# EAGLE library part AVRISP (library ISS-Notify)
ISP header for AVR
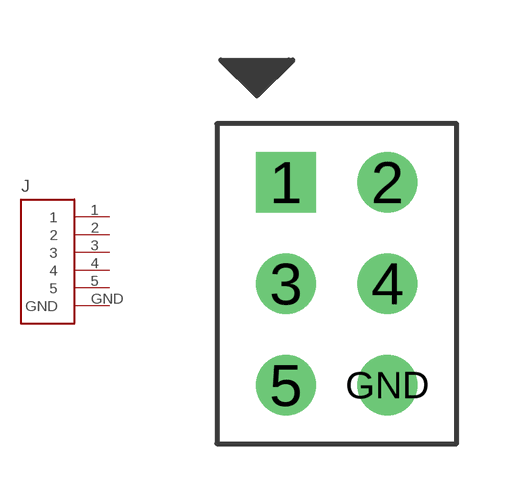
[diagram p1: symbol with the pads of AVRISP; footprint AVRISP]

Designator prefix J

## AVRISP  [AVRISP]
1  1
2  2
3  3
4  4
5  5
GND  GND  pwr

## Footprint AVRISP (pad centres in mm)
drill 1 square: 1 -1.27,2.54
drill 1: 2 1.27,2.54; 3 -1.27,0; 4 1.27,0; 5 -1.27,-2.54; GND 1.27,-2.54